# Altium footprint library RS2BE-20-G-SMT.PcbLib: 1 footprints
Each footprint in its own frame and in the unit in brackets; x right, y up, seen from the top. Pads: shape width x height; smd on the part's side, far side on the other; paste and mask are expansions set on the pad; w line width, h text height; cw(c..) or ccw(c..) is an arc to the next point about the centre after c.
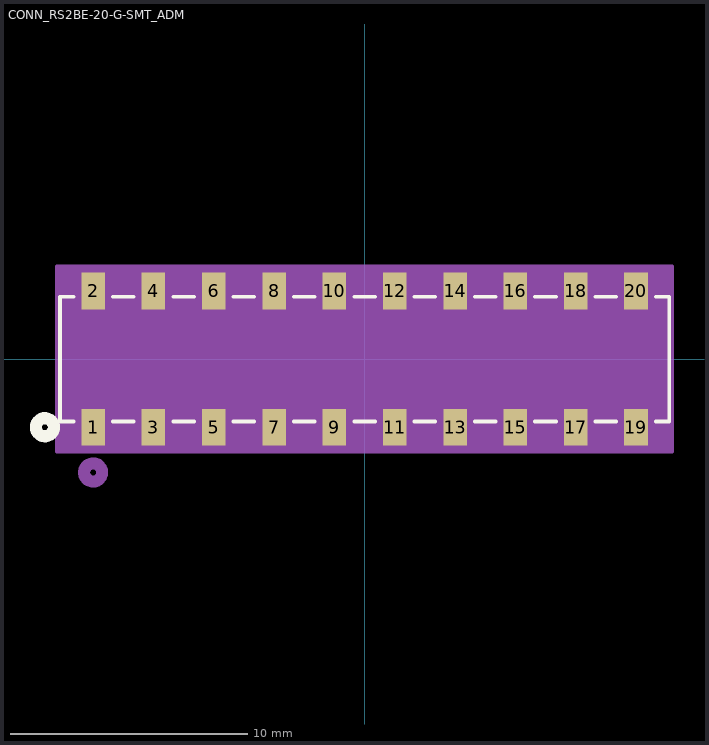
[diagram p0: the footprint, top view; thin cyan lines are the x and y axes]

## CONN_RS2BE-20-G-SMT_ADM [mil]
pads (20):
  rect 39x61 smd paste+0 mask+0: 1(-450,-113) 2(-450,113) 3(-350,-113) 4(-350,113) 5(-250,-113) 6(-250,113) 7(-150,-113) 8(-150,113) 9(-50,-113) 10(-50,113) 11(50,-113) 12(50,113) 13(150,-113) 14(150,113) 15(250,-113) 16(250,113) 17(350,-113) 18(350,113) 19(450,-113) 20(450,113)
Top Overlay:
  circle w20: c-530,-113 r15
  lines w6: -482.6,-103.5 -505,-103.5 -505,103.5 -482.6,103.5 ; -417.4,-103.5 -382.6,-103.5 ; -417.4,103.5 -382.6,103.5 ; -317.4,-103.5 -282.6,-103.5 ; -317.4,103.5 -282.6,103.5 ; -217.4,-103.5 -182.6,-103.5 ; -217.4,103.5 -182.6,103.5 ; -117.4,-103.5 -82.6,-103.5 ; -117.4,103.5 -82.6,103.5 ; -17.4,-103.5 17.4,-103.5 ; -17.4,103.5 17.4,103.5 ; 82.6,-103.5 117.4,-103.5 ; 82.6,103.5 117.4,103.5 ; 182.6,-103.5 217.4,-103.5 ; 182.6,103.5 217.4,103.5 ; 282.6,-103.5 317.4,-103.5 ; 282.6,103.5 317.4,103.5 ; 382.6,-103.5 417.4,-103.5 ; 382.6,103.5 417.4,103.5 ; 482.6,-103.5 505,-103.5 505,103.5 482.6,103.5
Bottom Overlay:
  circle w20: c-530,-113 r15
Mechanical 13:
  circle w20: c-450,-188 r15
  lines w1: -500,-98.5 500,-98.5 500,98.5 -500,98.5 -500,-98.5
Mechanical 15:
  region: 510,153.5 -510,153.5 -510,-153.5 510,-153.5
  lines w6: -510,-153.5 -510,153.5 510,153.5 510,-153.5 -510,-153.5
3D body "NPPC102KFMS-RC.STEP": height 295, standoff 0, extent -510,-135 510,135